# EAGLE library part 2199119-4 (library 2199119-4)
AMP - TE CONNECTIVITY - 2199119-4 - Card Edge Connector, Dual Side, 67 Contacts, Surface Mount, Right Angle, Solder Source: Datasheet <https://componentsearchengine.com/Datasheets/5/2199119-4.pdf>
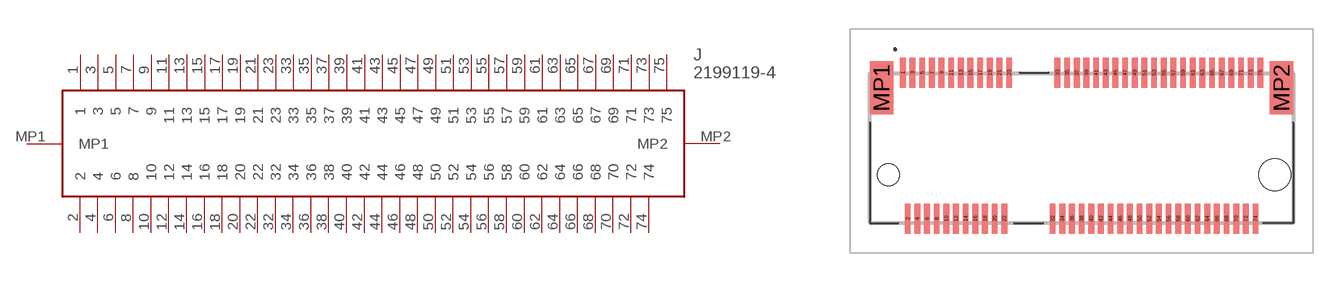
[diagram p0: symbol with the pads of 21991194; footprint 21991194]

Designator prefix J

## 2199119-4 (Description: AMP - TE CONNECTIVITY - 2199119-4 - Card Edge Connector, Dual Side, 67 Contacts, Surface Mount, Right Angle, Solder; Height: 3.2mm; Manufacturer_Name: TE Connectivity; Manufacturer_Part_Number: 2199119-4; Mouser_Part_Number: 571-2199119-4; Mouser_Price-Stock: https://www.mouser.co.uk/ProductDetail/TE-Connectivity/2199119-4?qs=EQCnRgr4b6HleVSqFeBacg%3D%3D)  [21991194]
1  1
2  2
3  3
4  4
5  5
6  6
7  7
8  8
9  9
10  10
11  11
12  12
13  13
14  14
15  15
16  16
17  17
18  18
19  19
20  20
21  21
22  22
23  23
32  32
33  33
34  34
35  35
36  36
37  37
38  38
39  39
40  40
41  41
42  42
43  43
44  44
45  45
46  46
47  47
48  48
49  49
50  50
51  51
52  52
53  53
54  54
55  55
56  56
57  57
58  58
59  59
60  60
61  61
62  62
63  63
64  64
65  65
66  66
67  67
68  68
69  69
70  70
71  71
72  72
73  73
74  74
75  75
MP1  MP1
MP2  MP2

## Footprint 21991194 (pad centres in mm)
2199119-4-2
smd 0.3 x 1.55: 1 -9.25,3.888; 2 -9,-3.662; 3 -8.75,3.888; 4 -8.5,-3.662; 5 -8.25,3.888; 6 -8,-3.662; 7 -7.75,3.888; 8 -7.5,-3.662; 9 -7.25,3.888; 10 -7,-3.662; 11 -6.75,3.888; 12 -6.5,-3.662; 13 -6.25,3.888; 14 -6,-3.662; 15 -5.75,3.888; 16 -5.5,-3.662; 17 -5.25,3.888; 18 -5,-3.662; 19 -4.75,3.888; 20 -4.5,-3.662; 21 -4.25,3.888; 22 -4,-3.662; 23 -3.75,3.888; 32 -1.5,-3.662; 33 -1.25,3.888; 34 -1,-3.662; 35 -0.75,3.888; 36 -0.5,-3.662; 37 -0.25,3.888; 38 0,-3.662; 39 0.25,3.888; 40 0.5,-3.662; 41 0.75,3.888; 42 1,-3.662; 43 1.25,3.888; 44 1.5,-3.662; 45 1.75,3.888; 46 2,-3.662; 47 2.25,3.888; 48 2.5,-3.662; 49 2.75,3.888; 50 3,-3.662; 51 3.25,3.888; 52 3.5,-3.662; 53 3.75,3.888; 54 4,-3.662; 55 4.25,3.888; 56 4.5,-3.662; 57 4.75,3.888; 58 5,-3.662; 59 5.25,3.888; 60 5.5,-3.662; 61 5.75,3.888; 62 6,-3.662; 63 6.25,3.888; 64 6.5,-3.662; 65 6.75,3.888; 66 7,-3.662; 67 7.25,3.888; 68 7.5,-3.662; 69 7.75,3.888; 70 8,-3.662; 71 8.25,3.888; 72 8.5,-3.662; 73 8.75,3.888; 74 9,-3.662; 75 9.25,3.888
smd 1.2 x 2.75: MP1 -10.35,3.112; MP2 10.35,3.112
hole 1.15 at -10,-1.387
hole 1.65 at 10,-1.387